# Altium footprint library PcbLib.PcbLib: 28 footprints (part 1 of 2)
Each footprint in its own frame and in the unit in brackets; x right, y up, seen from the top. Pads: shape width x height; smd on the part's side, far side on the other; paste and mask are expansions set on the pad; w line width, h text height; cw(c..) or ccw(c..) is an arc to the next point about the centre after c.
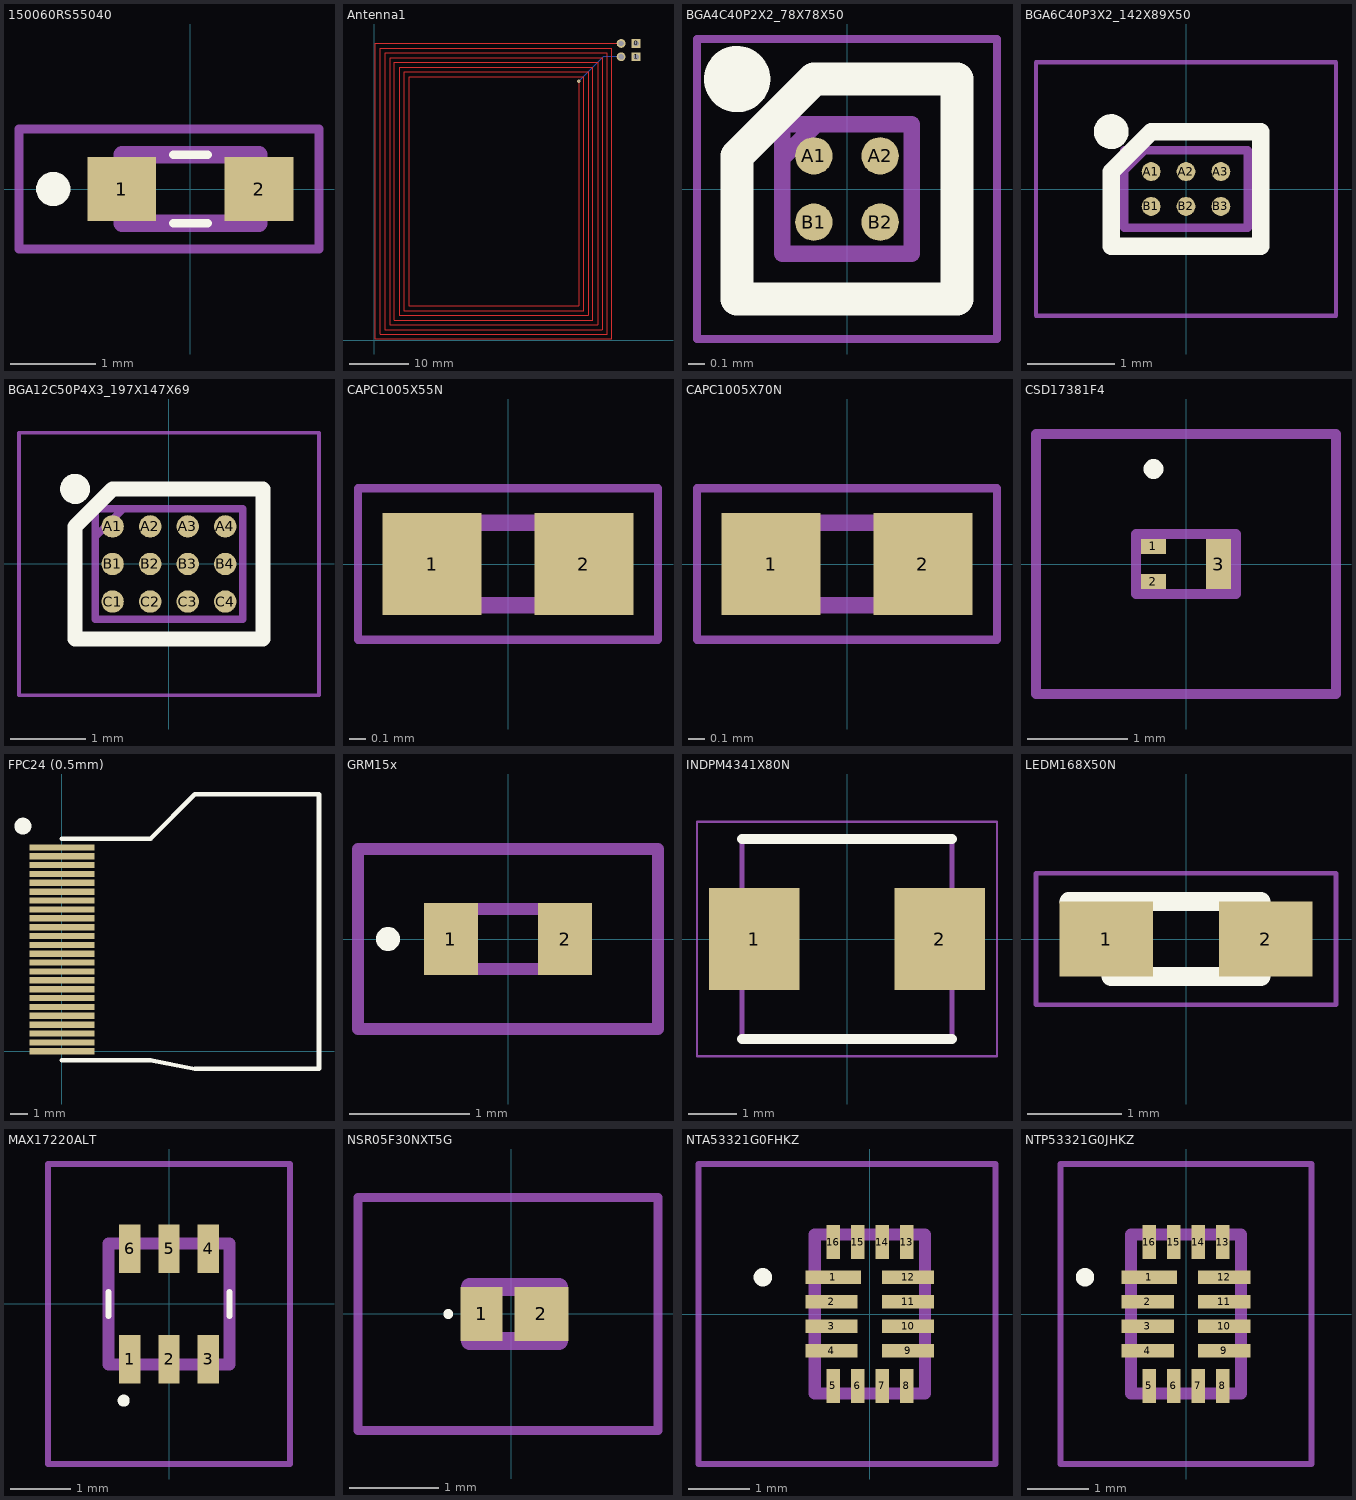
[diagram p0: the footprints below, top view; thin cyan lines are the x and y axes]

## 150060RS55040 [mm]
pads (2):
  rect 0.8x0.75 smd: 1(-0.8,0) 2(0.8,0)
Top Overlay:
  lines w0.1: -0.2,-0.4 0.2,-0.4 ; -0.2,0.4 0.2,0.4
  lines w0.2: -1.6,-0.1 cw(c-1.6,0) -1.6,0.1 cw(c-1.6,0) -1.6,-0.1
Mechanical 13:
  lines w0.2: -0.8,-0.4 -0.8,0.4 0.8,0.4 0.8,-0.4 -0.8,-0.4
Mechanical 15:
  lines w0.1: -2,-0.7 -2,0.7 1.5,0.7 1.5,-0.7 -2,-0.7
3D body "150060RS55040.stp": height 0.4, standoff 0, extent -0.79,-0.4 0.81,0.4

## Antenna1 [mm]
pads (4):
  rect 1.5x1.5 hole 0.9: 0(44.3,50.2) 1(44.3,47.947)
  round 1.5 hole 0.9: ""(41.76,50.2) ""(41.76,47.947)
via 34.6,43.8 diameter 0.6 hole 0.3
Top Layer:
  lines w0.2: 1.8,1.8 38.6,1.8 38.6,47.8 2.6,47.8 2.6,2.6 37.8,2.6 37.8,47 3.4,47 3.4,3.4 37,3.4 37,46.2 4.2,46.2 4.2,4.2 36.2,4.2 36.2,45.4 5,45.4 5,5 35.4,5 35.4,44.6 5.8,44.6 5.8,5.8 34.6,5.8 34.6,43.8 ; 1.8,1.814 1.8,48.6 39.4,48.6 39.4,1 1,1 1,49.393 40.2,49.393 40.2,0.2 0.2,0.2 0.2,50.2 41.76,50.2
Bottom Layer:
  lines w0.2: 34.6,43.8 38.8,48 41.76,48

## BGA4C40P2X2_78X78X50 [mm]
pads (4):
  round 0.226 smd: A1(-0.2,0.2) A2(0.2,0.2) B1(-0.2,-0.2) B2(0.2,-0.2)
Top Overlay:
  circle w0.2: c-0.663,0.663 r0.1
  lines w0.2: -0.663,-0.663 0.663,-0.663 0.663,0.663 -0.2,0.663 -0.663,0.2 -0.663,-0.663
Mechanical 13:
  lines w0.1: -0.39,0.188 -0.188,0.39 ; -0.39,-0.39 0.39,-0.39 0.39,0.39 -0.39,0.39 -0.39,-0.39
Mechanical 15:
  lines w0.05: -0.905,-0.905 0.905,-0.905 0.905,0.905 -0.905,0.905 -0.905,-0.905
3D body "TPS22916CYFPR.stp": height 0.5, standoff 0, extent -0.39,-0.39 0.39,0.39

## BGA6C40P3X2_142X89X50 [mm]
pads (6):
  round 0.216 smd: A1(-0.4,0.2) A2(0,0.2) A3(0.4,0.2) B1(-0.4,-0.2) B2(0,-0.2) B3(0.4,-0.2)
Top Overlay:
  circle w0.2: c-0.858,0.658 r0.1
  lines w0.2: -0.858,-0.658 -0.858,0.2 -0.4,0.658 0.858,0.658 0.858,-0.658 -0.858,-0.658
Mechanical 13:
  lines w0.1: -0.708,0.216 -0.48,0.444 ; -0.708,-0.443 -0.708,0.444 0.709,0.444 0.709,-0.443 -0.708,-0.443
Mechanical 15:
  lines w0.05: -1.721,-1.456 -1.721,1.456 1.721,1.456 1.721,-1.456 -1.721,-1.456
3D body "MAX17220ENT+T.stp": height 0.5, standoff 0, extent -0.708,-0.443 0.708,0.443

## BGA12C50P4X3_197X147X69 [mm]
pads (12):
  round 0.298 smd: A1(-0.75,0.5) A2(-0.25,0.5) A3(0.25,0.5) A4(0.75,0.5) B1(-0.75,0) B2(-0.25,0) B3(0.25,0) B4(0.75,0) C1(-0.75,-0.5) C2(-0.25,-0.5) C3(0.25,-0.5) C4(0.75,-0.5)
Top Overlay:
  circle w0.2: c-1.249,0.999 r0.1
  lines w0.2: -1.249,-0.999 1.249,-0.999 1.249,0.999 -0.75,0.999 -1.249,0.5 -1.249,-0.999
Mechanical 13:
  lines w0.1: -0.984,0.361 -0.611,0.734 ; -0.984,-0.734 0.984,-0.734 0.984,0.734 -0.984,0.734 -0.984,-0.734
Mechanical 15:
  lines w0.05: -1.996,-1.747 1.997,-1.747 1.997,1.746 -1.996,1.746 -1.996,-1.747
3D body "MAX31334EWC+T.stp": height 0.69, standoff 0, extent -0.984,-0.734 0.984,0.734

## CAPC1005X55N [mm]
pads (2):
  rect 0.6x0.62 smd: 1(-0.46,0) 2(0.46,0)
Mechanical 13:
  lines w0.1: -0.5,-0.25 -0.5,0.25 0.5,0.25 0.5,-0.25 -0.5,-0.25
Mechanical 15:
  lines w0.05: -0.91,-0.46 -0.91,0.46 0.91,0.46 0.91,-0.46 -0.91,-0.46
3D body "GRM155R61E105KA12D.stp": height 0.25, standoff -0.25, extent -0.5,-0.25 0.5,0.25

## CAPC1005X70N [mm]
pads (2):
  rect 0.6x0.62 smd: 1(-0.46,0) 2(0.46,0)
Mechanical 13:
  lines w0.1: -0.5,-0.25 -0.5,0.25 0.5,0.25 0.5,-0.25 -0.5,-0.25
Mechanical 15:
  lines w0.05: -0.91,-0.46 -0.91,0.46 0.91,0.46 0.91,-0.46 -0.91,-0.46
3D body "GRM1555C1E1R0WA01D.stp": height 0.5, standoff 0, extent -0.5,-0.25 0.5,0.25

## CSD17381F4 [mm]
pads (3):
  rect 0.25x0.15 smd: 1(-0.325,0.175) 2(-0.325,-0.175)
  rect 0.25x0.5 smd: 3(0.325,0)
Top Overlay:
  lines w0.1: -0.325,0.9 ccw(c-0.325,0.95) -0.325,1 ccw(c-0.325,0.95) -0.325,0.9
Mechanical 13:
  lines w0.1: -0.5,-0.3 0.5,-0.3 0.5,0.3 -0.5,0.3 -0.5,-0.3
Mechanical 15:
  lines w0.1: -1.5,-1.3 1.5,-1.3 1.5,1.3 -1.5,1.3 -1.5,-1.3
3D body "CSD17381F4.stp": height 0.35, standoff 0, extent -0.5,-0.3 0.5,0.3

## FPC24 (0.5mm) [mm]
pads (24):
  rect 3.67x0.35 smd: 1(0,11.5) 2(0,11) 3(0,10.5) 4(0,10) 5(0,9.5) 6(0,9) 7(0,8.5) 8(0,8) 9(0,7.5) 10(0,7) 11(0,6.5) 12(0,6) 13(0,5.5) 14(0,5) 15(0,4.5) 16(0,4) 17(0,3.5) 18(0,3) 19(0,2.5) 20(0,2) 21(0,1.5) 22(0,1) 23(0,0.5) 24(0,0)
Top Overlay:
  circle w0.5: c-2.2,12.7 r0.224
  lines w0.254: 0,-0.5 5,-0.5 7.5,-1 14.5,-1 14.5,14.5 7.5,14.5 5,12 0,12

## GRM15x [mm]
pads (2):
  rect 0.45x0.6 smd: 1(-0.475,0) 2(0.475,0)
Top Overlay:
  lines w0.1: -1,-0.05 ccw(c-1,0) -1,0.05 ccw(c-1,0) -1,-0.05
Mechanical 13:
  lines w0.1: -0.5,-0.25 -0.5,0.25 0.5,0.25 0.5,-0.25 -0.5,-0.25
Mechanical 15:
  lines w0.1: -1.25,-0.75 -1.25,0.75 1.25,0.75 1.25,-0.75 -1.25,-0.75
3D body "GRM155C61E475ME15J.stp": height 0.5, standoff 0, extent -0.5,-0.28 0.5,0.27

## INDPM4341X80N [mm]
pads (2):
  rect 1.85x2.1 smd: 1(-1.9,0) 2(1.9,0)
Top Overlay:
  lines w0.2: -2.15,-2.05 2.15,-2.05 ; -2.15,2.05 2.15,2.05
Mechanical 13:
  lines w0.1: -2.15,-2.05 -2.15,2.05 2.15,2.05 2.15,-2.05 -2.15,-2.05
Mechanical 15:
  lines w0.05: -3.075,-2.4 -3.075,2.4 3.075,2.4 3.075,-2.4 -3.075,-2.4
3D body "SRP0408F-100M.stp": height 0.8, standoff 0, extent -2.15,-2.05 2.15,2.05

## LEDM168X50N [mm]
pads (2):
  rect 1x0.8 smd: 1(-0.85,0) 2(0.85,0)
Top Overlay:
  lines w0.2: -1.25,0.4 0.8,0.4 ; -0.8,-0.4 0.8,-0.4
Mechanical 13:
  lines w0.1: -0.8,0 -0.4,0.4 ; -0.8,-0.4 0.8,-0.4 0.8,0.4 -0.8,0.4 -0.8,-0.4
Mechanical 15:
  lines w0.05: -1.6,-0.7 1.6,-0.7 1.6,0.7 -1.6,0.7 -1.6,-0.7
3D body "150060VS55040.stp": height 0.4, standoff 0, extent -0.8,-0.4 0.8,0.4

## MAX17220ALT [mm]
pads (6):
  rect 0.35x0.8 smd: 1(-0.65,-0.915) 2(0,-0.915) 3(0.65,-0.915) 4(0.65,0.915) 5(0,0.915) 6(-0.65,0.915)
Top Overlay:
  lines w0.1: -1,-0.2 -1,0.2 ; 1,-0.2 1,0.2 ; -0.8,-1.6 cw(c-0.75,-1.6) -0.7,-1.6 cw(c-0.75,-1.6) -0.8,-1.6
Mechanical 13:
  lines w0.2: -1,-1 -1,1 1,1 1,-1 -1,-1
Mechanical 15:
  lines w0.1: -2,-2.65 -2,2.315 2,2.315 2,-2.65 -2,-2.65
3D body "MAX1722ELT+.stp": height 0.75, standoff 0, extent -1,-1.09 1,0.91

## NSR05F30NXT5G [mm]
pads (2):
  rect 0.47x0.6 smd: 1(-0.333,0)
  rect 0.6x0.6 smd: 2(0.333,0)
Top Overlay:
  lines w0.1: -0.71,0 cw(c-0.705,0) -0.7,0 cw(c-0.705,0) -0.71,0
Mechanical 13:
  lines w0.2: -0.465,-0.3 0.53,-0.3 0.53,0.3 -0.465,0.3 -0.465,-0.3
Mechanical 15:
  lines w0.1: -1.71,-1.3 1.633,-1.3 1.633,1.3 -1.71,1.3 -1.71,-1.3
3D body "NSR05F30NXT5G.stp": height 0.31, standoff 0, extent -0.47,-0.3 0.53,0.3

## NTA53321G0FHKZ [mm]
pads (16):
  rect 0.9x0.22 smd: 1(-0.6,0.6)
  rect 0.85x0.22 smd: 2(-0.625,0.2) 3(-0.625,-0.2) 4(-0.625,-0.6) 9(0.625,-0.6) 10(0.625,-0.2) 11(0.625,0.2) 12(0.625,0.6)
  rect 0.22x0.55 smd: 5(-0.6,-1.175) 6(-0.2,-1.175) 7(0.2,-1.175) 8(0.6,-1.175) 13(0.6,1.175) 14(0.2,1.175) 15(-0.2,1.175) 16(-0.6,1.175)
Top Overlay:
  lines w0.2: -1.8,0.6 ccw(c-1.75,0.6) -1.7,0.6 ; -1.8,0.6 cw(c-1.75,0.6) -1.7,0.6 ; -1.8,0.6 ccw(c-1.75,0.6) -1.7,0.6
Mechanical 13:
  lines w0.2: -0.9,-1.3 -0.9,1.3 0.9,1.3 0.9,-1.3 -0.9,-1.3
Mechanical 15:
  lines w0.1: -2.8,-2.45 -2.8,2.45 2.05,2.45 2.05,-2.45 -2.8,-2.45
3D body "NTA53321G0FHKZ.stp": height 0.5, standoff 0, extent -0.9,-1.3 0.9,1.3

## NTP53321G0JHKZ [mm]
pads (16):
  rect 0.9x0.22 smd: 1(-0.6,0.6)
  rect 0.85x0.22 smd: 2(-0.625,0.2) 3(-0.625,-0.2) 4(-0.625,-0.6) 9(0.625,-0.6) 10(0.625,-0.2) 11(0.625,0.2) 12(0.625,0.6)
  rect 0.22x0.55 smd: 5(-0.6,-1.175) 6(-0.2,-1.175) 7(0.2,-1.175) 8(0.6,-1.175) 13(0.6,1.175) 14(0.2,1.175) 15(-0.2,1.175) 16(-0.6,1.175)
Top Overlay:
  lines w0.2: -1.7,0.6 ccw(c-1.65,0.6) -1.6,0.6 ; -1.7,0.6 cw(c-1.65,0.6) -1.6,0.6 ; -1.7,0.6 ccw(c-1.65,0.6) -1.6,0.6
Mechanical 13:
  lines w0.2: -0.9,-1.3 0.9,-1.3 0.9,1.3 -0.9,1.3 -0.9,-1.3
Mechanical 15:
  lines w0.1: -2.05,-2.45 2.05,-2.45 2.05,2.45 -2.05,2.45 -2.05,-2.45
3D body "NTP53321G0JHKZ.stp": height 0.6, standoff 0, extent -0.9,-1.3 0.9,1.3